# EAGLE library part ESPWROOM32 (library Development Boards)
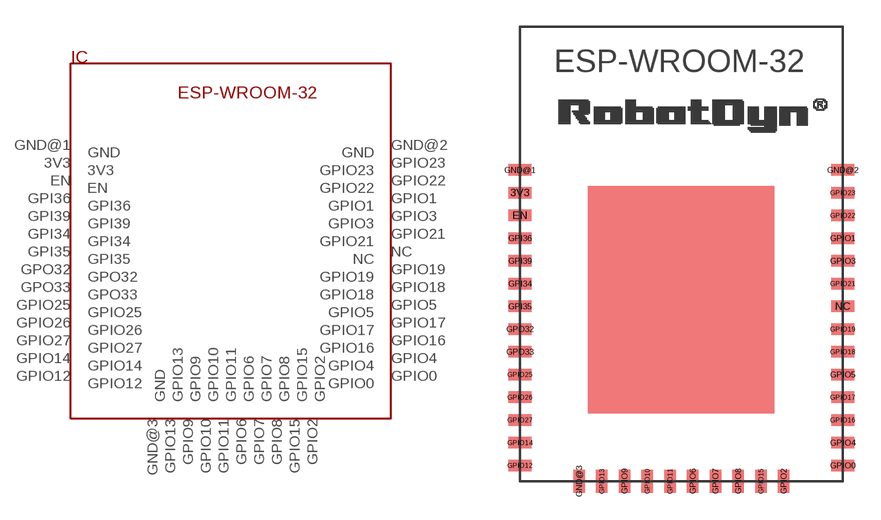
[diagram p8: symbol with the pads of ESPWROOM32; footprint ESPWROOM32]

Designator prefix IC

## ESPWROOM32  [ESPWROOM32]
3V3  3V3
EN  EN
GND@1  GND
GND@2  GND
GND@3  GND
GPI34  GPI34
GPI35  GPI35
GPI36  GPI36
GPI39  GPI39
GPIO0  GPIO0
GPIO1  GPIO1
GPIO2  GPIO2
GPIO3  GPIO3
GPIO4  GPIO4
GPIO5  GPIO5
GPIO6  GPIO6
GPIO7  GPIO7
GPIO8  GPIO8
GPIO9  GPIO9
GPIO10  GPIO10
GPIO11  GPIO11
GPIO12  GPIO12
GPIO13  GPIO13
GPIO14  GPIO14
GPIO15  GPIO15
GPIO16  GPIO16
GPIO17  GPIO17
GPIO18  GPIO18
GPIO19  GPIO19
GPIO21  GPIO21
GPIO22  GPIO22
GPIO23  GPIO23
GPIO25  GPIO25
GPIO26  GPIO26
GPIO27  GPIO27
GPO32  GPO32
GPO33  GPO33
NC  NC

## Footprint ESPWROOM32 (pad centres in mm)
smd 1.27 x 0.635: 3V3 -5.08,-1.651; EN -5.08,-2.921; GND@1 -5.08,-0.381; GND@2 12.954,-0.381; GPI34 -5.08,-6.731; GPI35 -5.08,-8.001; GPI36 -5.08,-4.191; GPI39 -5.08,-5.461; GPIO0 12.954,-16.891; GPIO1 12.954,-4.191; GPIO3 12.954,-5.461; GPIO4 12.954,-15.621; GPIO5 12.954,-11.811; GPIO12 -5.08,-16.891; GPIO14 -5.08,-15.621; GPIO16 12.954,-14.351; GPIO17 12.954,-13.081; GPIO18 12.954,-10.541; GPIO19 12.954,-9.271; GPIO21 12.954,-6.731; GPIO22 12.954,-2.921; GPIO23 12.954,-1.651; GPIO25 -5.08,-11.811; GPIO26 -5.08,-13.081; GPIO27 -5.08,-14.351; GPO32 -5.08,-9.271; GPO33 -5.08,-10.541; NC 12.954,-8.001
smd 0.635 x 1.27: GND@3 -1.778,-17.78; GPIO2 9.652,-17.78; GPIO6 4.572,-17.78; GPIO7 5.842,-17.78; GPIO8 7.112,-17.78; GPIO9 0.762,-17.78; GPIO10 2.032,-17.78; GPIO11 3.302,-17.78; GPIO13 -0.508,-17.78; GPIO15 8.382,-17.78